# Altium integrated library TI Power Management Supervisor and Reset IC.IntLib: 819 symbols (part 3 of 30)
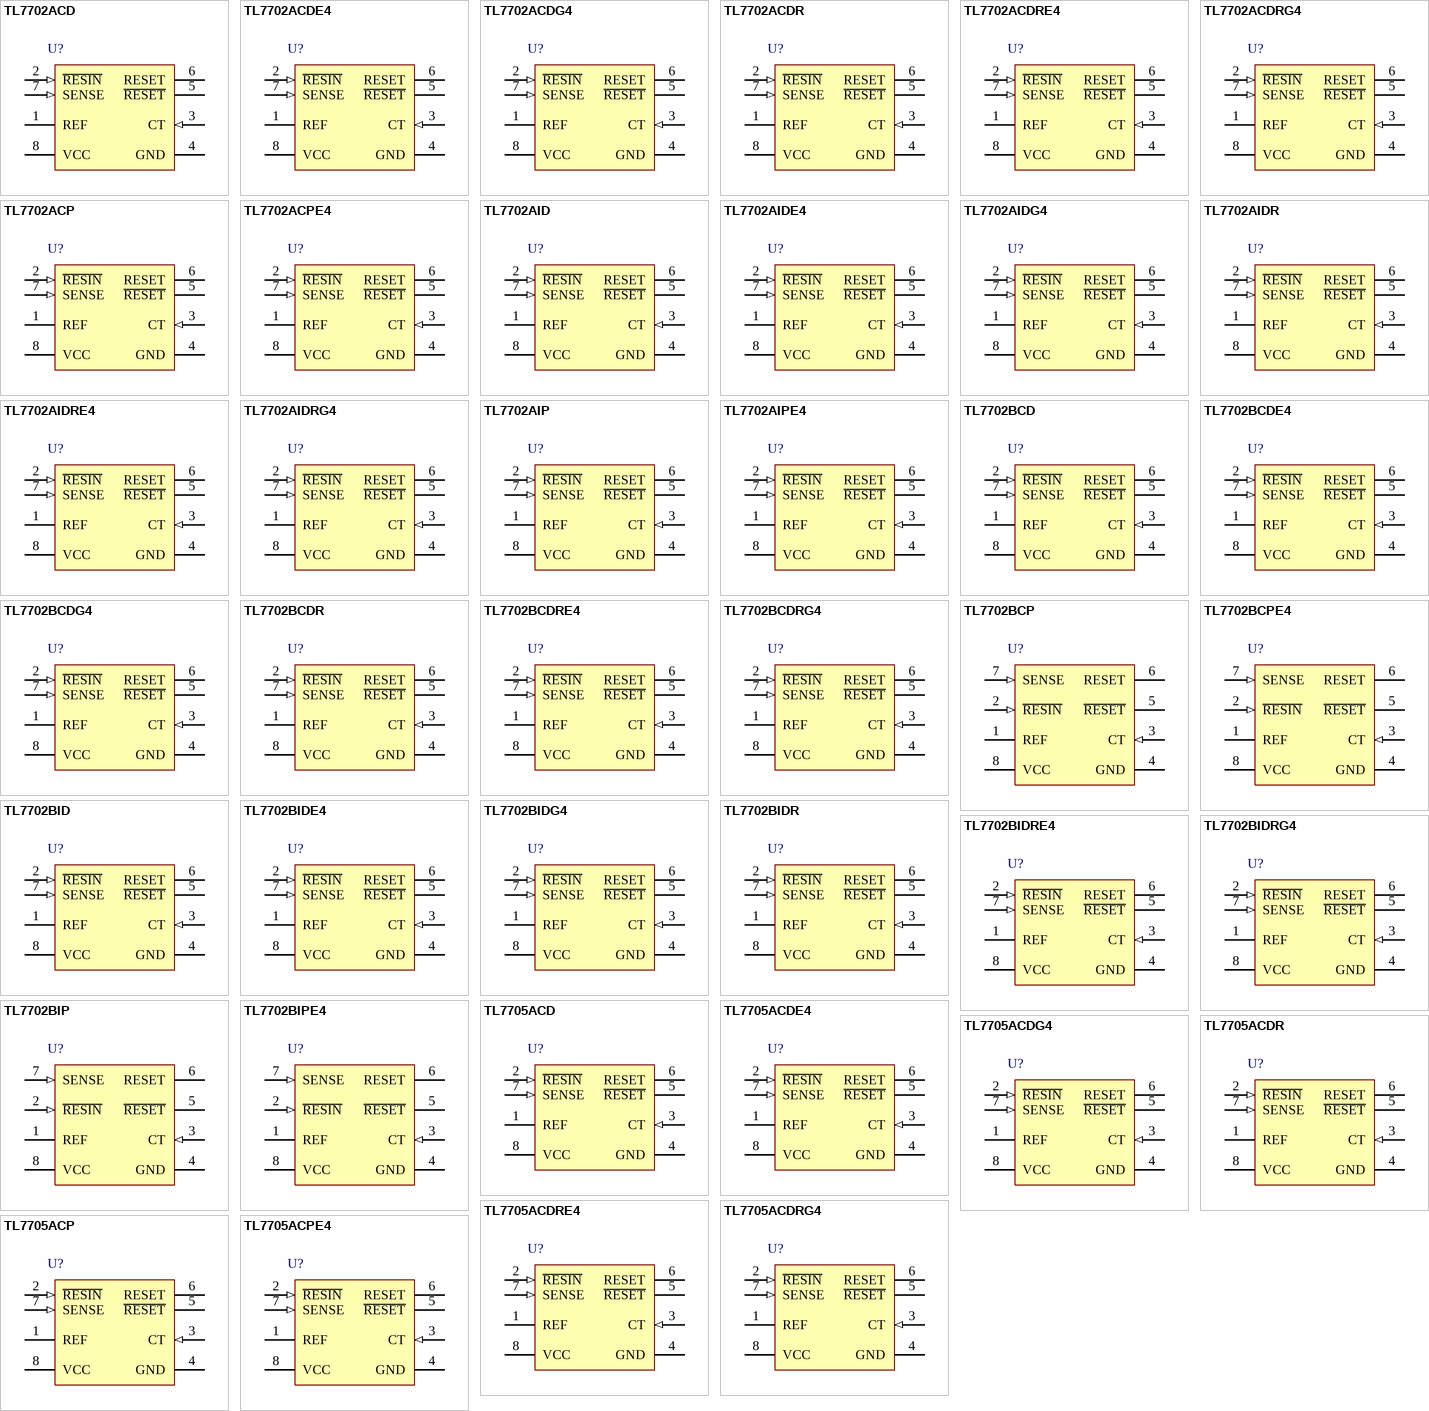
[diagram p23: symbols TL7702ACD to TL7705ACPE4]

## TL7702BIDRG4
designator U?
Single Supply Voltage Supervisor with Programmable UV Threshold & Reset Time Delay, 1 Supply Monitored, -40 to 85 degC, 8-pin SOIC (D), Green (RoHS & no Sb/Br); Manufacturer: Texas Instruments; PartNumber: TL7702BIDRG4; # of supplies monitored: 1; Iq(Typ)(uA): 1800; Output Driver Type / Reset Output: Active-low, Open-drain, Active-high, Open-drain; Rating: Military; Reset Threshold Accuracy(%): 2; SubFamily: Supervisor and Reset IC; Threshold Voltage 1 (typ)(Typ)(V): 2.53; VCC(Max)(V): 18; VCC(Min)(V): 3.6; DatasheetVersion: SLVS037M; PackageVersion: revM, Jun-2011; PackageReference: D8; PackageDescription: 8-Pin Plastic Small Outline Integrated Circuit, 4.9 x 3.9 mm, Pitch 1.27 mm Pitch; Supplier 1: Digi-Key; Supplier Part Number 1: TL7702BIDRG4-ND; Supplier 2: Newark; Supplier Part Number 2: 41M5795; Time Delay(ms): Programmable; Mounting Technology: Surface Mount; Code_JEDEC: MS-012AA; ComponentLink1Description: Datasheet; ComponentLink1URL: http://www.ti.com/general/docs/lit/getliterature.tsp?genericPartNumber=TL7702B&fileType=pdf
footprint D8_N (SOIC, 8-Leads, Body 4.9x3.9mm, Pitch 1.27mm, IPC Medium Density)
footprint D8_L (SOIC, 8-Leads, Body 4.9x3.9mm, Pitch 1.27mm, IPC High Density)
footprint D8_M (SOIC, 8-Leads, Body 4.9x3.9mm, Pitch 1.27mm, IPC Low Density)
pins: 1 REF, 2 ~{RESIN} (in), 3 CT (in), 4 GND (power), 5 ~{RESET} (oc), 6 RESET (oe), 7 SENSE (in), 8 VCC (power)

## TL7702BIP
designator U?
Single Supply Voltage Supervisor with Programmable UV Threshold & Reset Time Delay, 1 Supply Monitored, -40 to 85 degC, 8-pin PDIP (P), Pb-Free (RoHS); Manufacturer: Texas Instruments; PartNumber: TL7702BIP; # of supplies monitored: 1; Iq(Typ)(uA): 1800; Output Driver Type / Reset Output: Active-low, Open-drain, Active-high, Open-drain; Rating: Military; Reset Threshold Accuracy(%): 2; SubFamily: Supervisor and Reset IC; Threshold Voltage 1 (typ)(Typ)(V): 2.53; VCC(Max)(V): 18; VCC(Min)(V): 3.6; DatasheetVersion: SLVS037M; PackageVersion: revE, Apr-2010; PackageReference: P8; PackageDescription: 8-Pin Plastic Dual-In-Line Package, Row Spacing 7.62 mm, Pitch 2.54 mm; Supplier 1: Digi-Key; Supplier Part Number 1: 296-3238-5-ND; Supplier 2: Newark; Supplier Part Number 2: 76C9351; Supplier 3: Mouser; Supplier Part Number 3: 595-TL7702BIP; Time Delay(ms): Programmable; Mounting Technology: Through Hole; Code_JEDEC: MS-001-BA; ComponentLink1Description: Datasheet; ComponentLink1URL: http://www.ti.com/general/docs/lit/getliterature.tsp?genericPartNumber=TL7702B&fileType=pdf
footprint P8 (DIP, 8-Leads, Row Spacing 7.62mm, Pitch 2.54mm, Body 9.6x6.4mm)
pins: 1 REF, 2 ~{RESIN} (in), 3 CT (in), 4 GND (power), 5 ~{RESET} (oc), 6 RESET (oe), 7 SENSE (in), 8 VCC (power)

## TL7702BIPE4
designator U?
Single Supply Voltage Supervisor with Programmable UV Threshold & Reset Time Delay, 1 Supply Monitored, -40 to 85 degC, 8-pin PDIP (P), Pb-Free (RoHS); Manufacturer: Texas Instruments; PartNumber: TL7702BIPE4; # of supplies monitored: 1; Iq(Typ)(uA): 1800; Output Driver Type / Reset Output: Active-low, Open-drain, Active-high, Open-drain; Rating: Military; Reset Threshold Accuracy(%): 2; SubFamily: Supervisor and Reset IC; Threshold Voltage 1 (typ)(Typ)(V): 2.53; VCC(Max)(V): 18; VCC(Min)(V): 3.6; DatasheetVersion: SLVS037M; PackageVersion: revE, Apr-2010; PackageReference: P8; PackageDescription: 8-Pin Plastic Dual-In-Line Package, Row Spacing 7.62 mm, Pitch 2.54 mm; Supplier 1: Digi-Key; Supplier Part Number 1: TL7702BIPE4-ND; Supplier 2: Newark; Supplier Part Number 2: 37K4583; Supplier 3: Mouser; Supplier Part Number 3: 595-TL7702BIPE4; Time Delay(ms): Programmable; Mounting Technology: Through Hole; Code_JEDEC: MS-001-BA; ComponentLink1Description: Datasheet; ComponentLink1URL: http://www.ti.com/general/docs/lit/getliterature.tsp?genericPartNumber=TL7702B&fileType=pdf
footprint P8 (DIP, 8-Leads, Row Spacing 7.62mm, Pitch 2.54mm, Body 9.6x6.4mm)
pins: 1 REF, 2 ~{RESIN} (in), 3 CT (in), 4 GND (power), 5 ~{RESET} (oc), 6 RESET (oe), 7 SENSE (in), 8 VCC (power)

## TL7705ACD
designator U?
Single Supply Voltage Supervisor for 5 V Systems with Programmable Time Delay, 1 Supply Monitored, 0 to 70 degC, 8-pin SOIC (D), Green (RoHS & no Sb/Br); Manufacturer: Texas Instruments; PartNumber: TL7705ACD; # of supplies monitored: 1; Iq(Typ)(uA): 1800; Output Driver Type / Reset Output: Active-low, Open-drain, Active-high, Open-drain; Rating: Catalog; Reset Threshold Accuracy(%): 1.1; SubFamily: Supervisor and Reset IC; Threshold Voltage 1 (typ)(Typ)(V): 4.55; VCC(Max)(V): 18; VCC(Min)(V): 3.5; DatasheetVersion: SLVS028I; PackageVersion: revM, Jun-2011; PackageReference: D8; PackageDescription: 8-Pin Plastic Small Outline Integrated Circuit, 4.9 x 3.9 mm, Pitch 1.27 mm Pitch; Supplier 1: Digi-Key; Supplier Part Number 1: 296-1297-5-ND; Supplier 2: Newark; Supplier Part Number 2: 08F9504; Supplier 3: Mouser; Supplier Part Number 3: 595-TL7705ACD; Time Delay(ms): Programmable; Mounting Technology: Surface Mount; Code_JEDEC: MS-012AA; ComponentLink1Description: Datasheet; ComponentLink1URL: http://www.ti.com/general/docs/lit/getliterature.tsp?genericPartNumber=TL7705A&fileType=pdf
footprint D8_N (SOIC, 8-Leads, Body 4.9x3.9mm, Pitch 1.27mm, IPC Medium Density)
footprint D8_L (SOIC, 8-Leads, Body 4.9x3.9mm, Pitch 1.27mm, IPC High Density)
footprint D8_M (SOIC, 8-Leads, Body 4.9x3.9mm, Pitch 1.27mm, IPC Low Density)
pins: 1 REF, 2 ~{RESIN} (in), 3 CT (in), 4 GND (power), 5 ~{RESET} (oc), 6 RESET (oe), 7 SENSE (in), 8 VCC (power)

## TL7705ACDE4
designator U?
Single Supply Voltage Supervisor for 5 V Systems with Programmable Time Delay, 1 Supply Monitored, 0 to 70 degC, 8-pin SOIC (D), Green (RoHS & no Sb/Br); Manufacturer: Texas Instruments; PartNumber: TL7705ACDE4; # of supplies monitored: 1; Iq(Typ)(uA): 1800; Output Driver Type / Reset Output: Active-low, Open-drain, Active-high, Open-drain; Rating: Catalog; Reset Threshold Accuracy(%): 1.1; SubFamily: Supervisor and Reset IC; Threshold Voltage 1 (typ)(Typ)(V): 4.55; VCC(Max)(V): 18; VCC(Min)(V): 3.5; DatasheetVersion: SLVS028I; PackageVersion: revM, Jun-2011; PackageReference: D8; PackageDescription: 8-Pin Plastic Small Outline Integrated Circuit, 4.9 x 3.9 mm, Pitch 1.27 mm Pitch; Supplier 1: Digi-Key; Supplier Part Number 1: TL7705ACDE4-ND; Supplier 2: Newark; Supplier Part Number 2: 40K9733; Time Delay(ms): Programmable; Mounting Technology: Surface Mount; Code_JEDEC: MS-012AA; ComponentLink1Description: Datasheet; ComponentLink1URL: http://www.ti.com/general/docs/lit/getliterature.tsp?genericPartNumber=TL7705A&fileType=pdf
footprint D8_N (SOIC, 8-Leads, Body 4.9x3.9mm, Pitch 1.27mm, IPC Medium Density)
footprint D8_L (SOIC, 8-Leads, Body 4.9x3.9mm, Pitch 1.27mm, IPC High Density)
footprint D8_M (SOIC, 8-Leads, Body 4.9x3.9mm, Pitch 1.27mm, IPC Low Density)
pins: 1 REF, 2 ~{RESIN} (in), 3 CT (in), 4 GND (power), 5 ~{RESET} (oc), 6 RESET (oe), 7 SENSE (in), 8 VCC (power)

## TL7705ACDG4
designator U?
Single Supply Voltage Supervisor for 5 V Systems with Programmable Time Delay, 1 Supply Monitored, 0 to 70 degC, 8-pin SOIC (D), Green (RoHS & no Sb/Br); Manufacturer: Texas Instruments; PartNumber: TL7705ACDG4; # of supplies monitored: 1; Iq(Typ)(uA): 1800; Output Driver Type / Reset Output: Active-low, Open-drain, Active-high, Open-drain; Rating: Catalog; Reset Threshold Accuracy(%): 1.1; SubFamily: Supervisor and Reset IC; Threshold Voltage 1 (typ)(Typ)(V): 4.55; VCC(Max)(V): 18; VCC(Min)(V): 3.5; DatasheetVersion: SLVS028I; PackageVersion: revM, Jun-2011; PackageReference: D8; PackageDescription: 8-Pin Plastic Small Outline Integrated Circuit, 4.9 x 3.9 mm, Pitch 1.27 mm Pitch; Supplier 1: Digi-Key; Supplier Part Number 1: TL7705ACDG4-ND; Supplier 2: Farnell; Supplier Part Number 2: 1135964; Supplier 3: Newark; Supplier Part Number 3: 93K0640; Supplier 4: Newark; Supplier Part Number 4: 40K9734; Supplier 5: Mouser; Supplier Part Number 5: 595-TL7705ACDG4; Time Delay(ms): Programmable; Mounting Technology: Surface Mount; Code_JEDEC: MS-012AA; ComponentLink1Description: Datasheet; ComponentLink1URL: http://www.ti.com/general/docs/lit/getliterature.tsp?genericPartNumber=TL7705A&fileType=pdf
footprint D8_N (SOIC, 8-Leads, Body 4.9x3.9mm, Pitch 1.27mm, IPC Medium Density)
footprint D8_L (SOIC, 8-Leads, Body 4.9x3.9mm, Pitch 1.27mm, IPC High Density)
footprint D8_M (SOIC, 8-Leads, Body 4.9x3.9mm, Pitch 1.27mm, IPC Low Density)
pins: 1 REF, 2 ~{RESIN} (in), 3 CT (in), 4 GND (power), 5 ~{RESET} (oc), 6 RESET (oe), 7 SENSE (in), 8 VCC (power)

## TL7705ACDR
designator U?
Single Supply Voltage Supervisor for 5 V Systems with Programmable Time Delay, 1 Supply Monitored, 0 to 70 degC, 8-pin SOIC (D), Green (RoHS & no Sb/Br); Manufacturer: Texas Instruments; PartNumber: TL7705ACDR; # of supplies monitored: 1; Iq(Typ)(uA): 1800; Output Driver Type / Reset Output: Active-low, Open-drain, Active-high, Open-drain; Rating: Catalog; Reset Threshold Accuracy(%): 1.1; SubFamily: Supervisor and Reset IC; Threshold Voltage 1 (typ)(Typ)(V): 4.55; VCC(Max)(V): 18; VCC(Min)(V): 3.5; DatasheetVersion: SLVS028I; PackageVersion: revM, Jun-2011; PackageReference: D8; PackageDescription: 8-Pin Plastic Small Outline Integrated Circuit, 4.9 x 3.9 mm, Pitch 1.27 mm Pitch; Supplier 1: Digi-Key; Supplier Part Number 1: 296-1297-2-ND; Supplier 2: Digi-Key; Supplier Part Number 2: 296-1297-1-ND; Supplier 3: Digi-Key; Supplier Part Number 3: 296-1297-6-ND; Supplier 4: Newark; Supplier Part Number 4: 35C2194; Supplier 5: Mouser; Supplier Part Number 5: 595-TL7705ACDR; Time Delay(ms): Programmable; Mounting Technology: Surface Mount; Code_JEDEC: MS-012AA; ComponentLink1Description: Datasheet; ComponentLink1URL: http://www.ti.com/general/docs/lit/getliterature.tsp?genericPartNumber=TL7705A&fileType=pdf
footprint D8_N (SOIC, 8-Leads, Body 4.9x3.9mm, Pitch 1.27mm, IPC Medium Density)
footprint D8_L (SOIC, 8-Leads, Body 4.9x3.9mm, Pitch 1.27mm, IPC High Density)
footprint D8_M (SOIC, 8-Leads, Body 4.9x3.9mm, Pitch 1.27mm, IPC Low Density)
pins: 1 REF, 2 ~{RESIN} (in), 3 CT (in), 4 GND (power), 5 ~{RESET} (oc), 6 RESET (oe), 7 SENSE (in), 8 VCC (power)

## TL7705ACDRE4
designator U?
Single Supply Voltage Supervisor for 5 V Systems with Programmable Time Delay, 1 Supply Monitored, 0 to 70 degC, 8-pin SOIC (D), Green (RoHS & no Sb/Br); Manufacturer: Texas Instruments; PartNumber: TL7705ACDRE4; # of supplies monitored: 1; Iq(Typ)(uA): 1800; Output Driver Type / Reset Output: Active-low, Open-drain, Active-high, Open-drain; Rating: Catalog; Reset Threshold Accuracy(%): 1.1; SubFamily: Supervisor and Reset IC; Threshold Voltage 1 (typ)(Typ)(V): 4.55; VCC(Max)(V): 18; VCC(Min)(V): 3.5; DatasheetVersion: SLVS028I; PackageVersion: revM, Jun-2011; PackageReference: D8; PackageDescription: 8-Pin Plastic Small Outline Integrated Circuit, 4.9 x 3.9 mm, Pitch 1.27 mm Pitch; Supplier 1: Digi-Key; Supplier Part Number 1: TL7705ACDRE4-ND; Supplier 2: Newark; Supplier Part Number 2: 40K9735; Supplier 3: Mouser; Supplier Part Number 3: 595-TL7705ACDRE4; Time Delay(ms): Programmable; Mounting Technology: Surface Mount; Code_JEDEC: MS-012AA; ComponentLink1Description: Datasheet; ComponentLink1URL: http://www.ti.com/general/docs/lit/getliterature.tsp?genericPartNumber=TL7705A&fileType=pdf
footprint D8_N (SOIC, 8-Leads, Body 4.9x3.9mm, Pitch 1.27mm, IPC Medium Density)
footprint D8_L (SOIC, 8-Leads, Body 4.9x3.9mm, Pitch 1.27mm, IPC High Density)
footprint D8_M (SOIC, 8-Leads, Body 4.9x3.9mm, Pitch 1.27mm, IPC Low Density)
pins: 1 REF, 2 ~{RESIN} (in), 3 CT (in), 4 GND (power), 5 ~{RESET} (oc), 6 RESET (oe), 7 SENSE (in), 8 VCC (power)

## TL7705ACDRG4
designator U?
Single Supply Voltage Supervisor for 5 V Systems with Programmable Time Delay, 1 Supply Monitored, 0 to 70 degC, 8-pin SOIC (D), Green (RoHS & no Sb/Br); Manufacturer: Texas Instruments; PartNumber: TL7705ACDRG4; # of supplies monitored: 1; Iq(Typ)(uA): 1800; Output Driver Type / Reset Output: Active-low, Open-drain, Active-high, Open-drain; Rating: Catalog; Reset Threshold Accuracy(%): 1.1; SubFamily: Supervisor and Reset IC; Threshold Voltage 1 (typ)(Typ)(V): 4.55; VCC(Max)(V): 18; VCC(Min)(V): 3.5; DatasheetVersion: SLVS028I; PackageVersion: revM, Jun-2011; PackageReference: D8; PackageDescription: 8-Pin Plastic Small Outline Integrated Circuit, 4.9 x 3.9 mm, Pitch 1.27 mm Pitch; Supplier 1: Digi-Key; Supplier Part Number 1: TL7705ACDRG4-ND; Supplier 2: Farnell; Supplier Part Number 2: 1236543; Supplier 3: Newark; Supplier Part Number 3: 13M3204; Supplier 4: Newark; Supplier Part Number 4: 40K9736; Supplier 5: Mouser; Supplier Part Number 5: 595-TL7705ACDRG4; Time Delay(ms): Programmable; Mounting Technology: Surface Mount; Code_JEDEC: MS-012AA; ComponentLink1Description: Datasheet; ComponentLink1URL: http://www.ti.com/general/docs/lit/getliterature.tsp?genericPartNumber=TL7705A&fileType=pdf
footprint D8_N (SOIC, 8-Leads, Body 4.9x3.9mm, Pitch 1.27mm, IPC Medium Density)
footprint D8_L (SOIC, 8-Leads, Body 4.9x3.9mm, Pitch 1.27mm, IPC High Density)
footprint D8_M (SOIC, 8-Leads, Body 4.9x3.9mm, Pitch 1.27mm, IPC Low Density)
pins: 1 REF, 2 ~{RESIN} (in), 3 CT (in), 4 GND (power), 5 ~{RESET} (oc), 6 RESET (oe), 7 SENSE (in), 8 VCC (power)

## TL7705ACP
designator U?
Single Supply Voltage Supervisor for 5 V Systems with Programmable Time Delay, 1 Supply Monitored, 0 to 70 degC, 8-pin PDIP (P), Pb-Free (RoHS); Manufacturer: Texas Instruments; PartNumber: TL7705ACP; # of supplies monitored: 1; Iq(Typ)(uA): 1800; Output Driver Type / Reset Output: Active-low, Open-drain, Active-high, Open-drain; Rating: Catalog; Reset Threshold Accuracy(%): 1.1; SubFamily: Supervisor and Reset IC; Threshold Voltage 1 (typ)(Typ)(V): 4.55; VCC(Max)(V): 18; VCC(Min)(V): 3.5; DatasheetVersion: SLVS028I; PackageVersion: revE, Apr-2010; PackageReference: P8; PackageDescription: 8-Pin Plastic Dual-In-Line Package, Row Spacing 7.62 mm, Pitch 2.54 mm; Supplier 1: Digi-Key; Supplier Part Number 1: 296-1801-5-ND; Supplier 2: Farnell; Supplier Part Number 2: 1103043; Supplier 3: Newark; Supplier Part Number 3: 60K6997; Supplier 4: Mouser; Supplier Part Number 4: 595-TL7705ACP; Time Delay(ms): Programmable; Mounting Technology: Through Hole; Code_JEDEC: MS-001-BA; ComponentLink1Description: Datasheet; ComponentLink1URL: http://www.ti.com/general/docs/lit/getliterature.tsp?genericPartNumber=TL7705A&fileType=pdf
footprint P8 (DIP, 8-Leads, Row Spacing 7.62mm, Pitch 2.54mm, Body 9.6x6.4mm)
pins: 1 REF, 2 ~{RESIN} (in), 3 CT (in), 4 GND (power), 5 ~{RESET} (oc), 6 RESET (oe), 7 SENSE (in), 8 VCC (power)

## TL7705ACPE4
designator U?
Single Supply Voltage Supervisor for 5 V Systems with Programmable Time Delay, 1 Supply Monitored, 0 to 70 degC, 8-pin PDIP (P), Pb-Free (RoHS); Manufacturer: Texas Instruments; PartNumber: TL7705ACPE4; # of supplies monitored: 1; Iq(Typ)(uA): 1800; Output Driver Type / Reset Output: Active-low, Open-drain, Active-high, Open-drain; Rating: Catalog; Reset Threshold Accuracy(%): 1.1; SubFamily: Supervisor and Reset IC; Threshold Voltage 1 (typ)(Typ)(V): 4.55; VCC(Max)(V): 18; VCC(Min)(V): 3.5; DatasheetVersion: SLVS028I; PackageVersion: revE, Apr-2010; PackageReference: P8; PackageDescription: 8-Pin Plastic Dual-In-Line Package, Row Spacing 7.62 mm, Pitch 2.54 mm; Supplier 1: Digi-Key; Supplier Part Number 1: TL7705ACPE4-ND; Supplier 2: Newark; Supplier Part Number 2: 63K6535; Supplier 3: Mouser; Supplier Part Number 3: 595-TL7705ACPE4; Time Delay(ms): Programmable; Mounting Technology: Through Hole; Code_JEDEC: MS-001-BA; ComponentLink1Description: Datasheet; ComponentLink1URL: http://www.ti.com/general/docs/lit/getliterature.tsp?genericPartNumber=TL7705A&fileType=pdf
footprint P8 (DIP, 8-Leads, Row Spacing 7.62mm, Pitch 2.54mm, Body 9.6x6.4mm)
pins: 1 REF, 2 ~{RESIN} (in), 3 CT (in), 4 GND (power), 5 ~{RESET} (oc), 6 RESET (oe), 7 SENSE (in), 8 VCC (power)

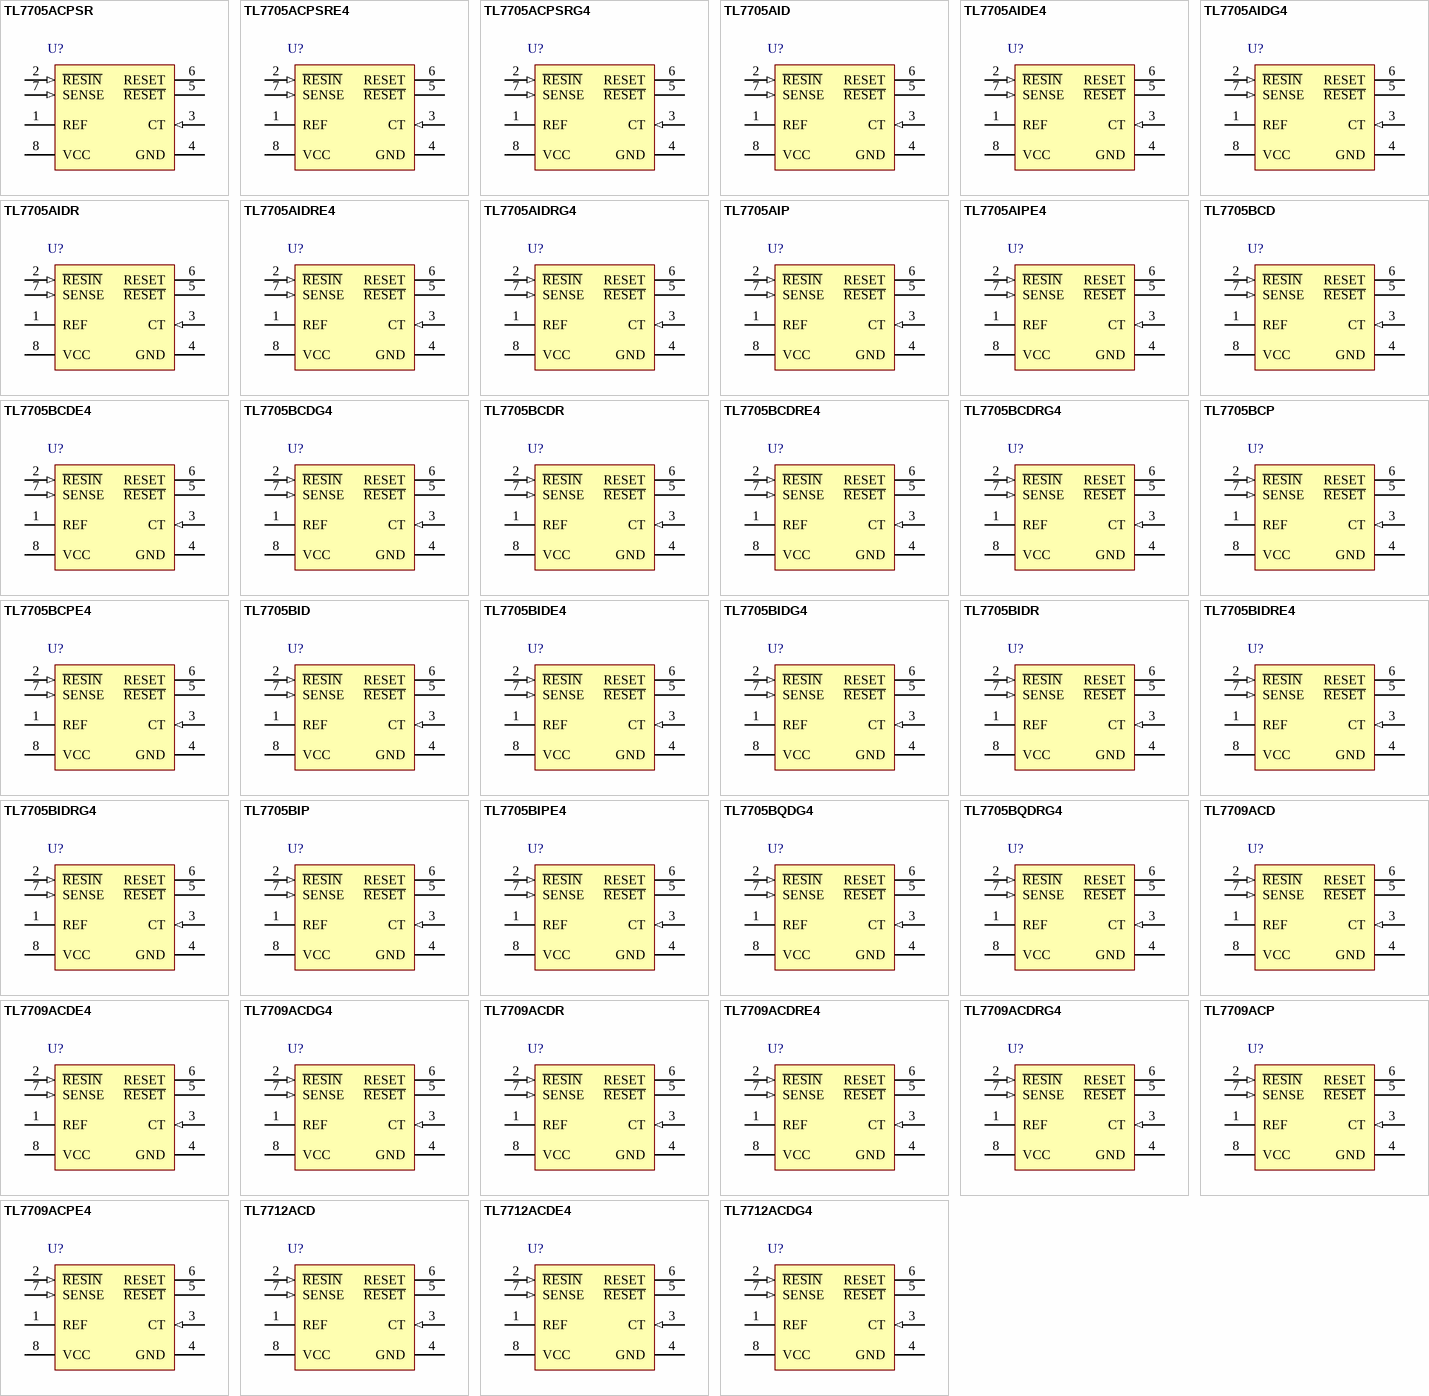
[diagram p2: symbols TL7705ACPSR to TL7712ACDG4]

## TL7705ACPSR
designator U?
Single Supply Voltage Supervisor for 5 V Systems with Programmable Time Delay, 1 Supply Monitored, 0 to 70 degC, 8-pin SO (PS), Green (RoHS & no Sb/Br); Manufacturer: Texas Instruments; PartNumber: TL7705ACPSR; # of supplies monitored: 1; Iq(Typ)(uA): 1800; Output Driver Type / Reset Output: Active-low, Open-drain, Active-high, Open-drain; Rating: Catalog; Reset Threshold Accuracy(%): 1.1; SubFamily: Supervisor and Reset IC; Threshold Voltage 1 (typ)(Typ)(V): 4.55; VCC(Max)(V): 18; VCC(Min)(V): 3.5; DatasheetVersion: SLVS028I; PackageVersion: revM, Jun-2011; PackageReference: D8; PackageDescription: 8-Pin Plastic Small Outline Integrated Circuit, 4.9 x 3.9 mm, Pitch 1.27 mm Pitch; Supplier 1: Digi-Key; Supplier Part Number 1: 296-3239-2-ND; Supplier 2: Digi-Key; Supplier Part Number 2: 296-3239-1-ND; Supplier 3: Digi-Key; Supplier Part Number 3: 296-3239-6-ND; Supplier 4: Newark; Supplier Part Number 4: 76C9352; Supplier 5: Mouser; Supplier Part Number 5: 595-TL7705ACPSR; Time Delay(ms): Programmable; Mounting Technology: Surface Mount; Code_JEDEC: MS-012AA; ComponentLink1Description: Datasheet; ComponentLink1URL: http://www.ti.com/general/docs/lit/getliterature.tsp?genericPartNumber=TL7705A&fileType=pdf
footprint D8_N (SOIC, 8-Leads, Body 4.9x3.9mm, Pitch 1.27mm, IPC Medium Density)
footprint D8_L (SOIC, 8-Leads, Body 4.9x3.9mm, Pitch 1.27mm, IPC High Density)
footprint D8_M (SOIC, 8-Leads, Body 4.9x3.9mm, Pitch 1.27mm, IPC Low Density)
pins: 1 REF, 2 ~{RESIN} (in), 3 CT (in), 4 GND (power), 5 ~{RESET} (oc), 6 RESET (oe), 7 SENSE (in), 8 VCC (power)

## TL7705ACPSRE4
designator U?
Single Supply Voltage Supervisor for 5 V Systems with Programmable Time Delay, 1 Supply Monitored, 0 to 70 degC, 8-pin SO (PS), Green (RoHS & no Sb/Br); Manufacturer: Texas Instruments; PartNumber: TL7705ACPSRE4; # of supplies monitored: 1; Iq(Typ)(uA): 1800; Output Driver Type / Reset Output: Active-low, Open-drain, Active-high, Open-drain; Rating: Catalog; Reset Threshold Accuracy(%): 1.1; SubFamily: Supervisor and Reset IC; Threshold Voltage 1 (typ)(Typ)(V): 4.55; VCC(Max)(V): 18; VCC(Min)(V): 3.5; DatasheetVersion: SLVS028I; PackageVersion: revM, Jun-2011; PackageReference: D8; PackageDescription: 8-Pin Plastic Small Outline Integrated Circuit, 4.9 x 3.9 mm, Pitch 1.27 mm Pitch; Supplier 1: Digi-Key; Supplier Part Number 1: TL7705ACPSRE4-ND; Supplier 2: Newark; Supplier Part Number 2: 37K4584; Supplier 3: Mouser; Supplier Part Number 3: 595-TL7705ACPSRE4; Time Delay(ms): Programmable; Mounting Technology: Surface Mount; Code_JEDEC: MS-012AA; ComponentLink1Description: Datasheet; ComponentLink1URL: http://www.ti.com/general/docs/lit/getliterature.tsp?genericPartNumber=TL7705A&fileType=pdf
footprint D8_N (SOIC, 8-Leads, Body 4.9x3.9mm, Pitch 1.27mm, IPC Medium Density)
footprint D8_L (SOIC, 8-Leads, Body 4.9x3.9mm, Pitch 1.27mm, IPC High Density)
footprint D8_M (SOIC, 8-Leads, Body 4.9x3.9mm, Pitch 1.27mm, IPC Low Density)
pins: 1 REF, 2 ~{RESIN} (in), 3 CT (in), 4 GND (power), 5 ~{RESET} (oc), 6 RESET (oe), 7 SENSE (in), 8 VCC (power)

## TL7705ACPSRG4
designator U?
Single Supply Voltage Supervisor for 5 V Systems with Programmable Time Delay, 1 Supply Monitored, 0 to 70 degC, 8-pin SO (PS), Green (RoHS & no Sb/Br); Manufacturer: Texas Instruments; PartNumber: TL7705ACPSRG4; # of supplies monitored: 1; Iq(Typ)(uA): 1800; Output Driver Type / Reset Output: Active-low, Open-drain, Active-high, Open-drain; Rating: Catalog; Reset Threshold Accuracy(%): 1.1; SubFamily: Supervisor and Reset IC; Threshold Voltage 1 (typ)(Typ)(V): 4.55; VCC(Max)(V): 18; VCC(Min)(V): 3.5; DatasheetVersion: SLVS028I; PackageVersion: revM, Jun-2011; PackageReference: D8; PackageDescription: 8-Pin Plastic Small Outline Integrated Circuit, 4.9 x 3.9 mm, Pitch 1.27 mm Pitch; Supplier 1: Digi-Key; Supplier Part Number 1: TL7705ACPSRG4-ND; Supplier 2: Newark; Supplier Part Number 2: 46M9297; Supplier 3: Mouser; Supplier Part Number 3: 595-TL7705ACPSRG4; Time Delay(ms): Programmable; Mounting Technology: Surface Mount; Code_JEDEC: MS-012AA; ComponentLink1Description: Datasheet; ComponentLink1URL: http://www.ti.com/general/docs/lit/getliterature.tsp?genericPartNumber=TL7705A&fileType=pdf
footprint D8_N (SOIC, 8-Leads, Body 4.9x3.9mm, Pitch 1.27mm, IPC Medium Density)
footprint D8_L (SOIC, 8-Leads, Body 4.9x3.9mm, Pitch 1.27mm, IPC High Density)
footprint D8_M (SOIC, 8-Leads, Body 4.9x3.9mm, Pitch 1.27mm, IPC Low Density)
pins: 1 REF, 2 ~{RESIN} (in), 3 CT (in), 4 GND (power), 5 ~{RESET} (oc), 6 RESET (oe), 7 SENSE (in), 8 VCC (power)

## TL7705AID
designator U?
Single Supply Voltage Supervisor for 5 V Systems with Programmable Time Delay, 1 Supply Monitored, -40 to 85 degC, 8-pin SOIC (D), Green (RoHS & no Sb/Br); Manufacturer: Texas Instruments; PartNumber: TL7705AID; # of supplies monitored: 1; Iq(Typ)(uA): 1800; Output Driver Type / Reset Output: Active-low, Open-drain, Active-high, Open-drain; Rating: Catalog; Reset Threshold Accuracy(%): 1.1; SubFamily: Supervisor and Reset IC; Threshold Voltage 1 (typ)(Typ)(V): 4.55; VCC(Max)(V): 18; VCC(Min)(V): 3.5; DatasheetVersion: SLVS028I; PackageVersion: revM, Jun-2011; PackageReference: D8; PackageDescription: 8-Pin Plastic Small Outline Integrated Circuit, 4.9 x 3.9 mm, Pitch 1.27 mm Pitch; Supplier 1: Digi-Key; Supplier Part Number 1: 296-3240-5-ND; Supplier 2: Farnell; Supplier Part Number 2: 9593691; Supplier 3: Newark; Supplier Part Number 3: 76C9353; Supplier 4: Mouser; Supplier Part Number 4: 595-TL7705AID; Time Delay(ms): Programmable; Mounting Technology: Surface Mount; Code_JEDEC: MS-012AA; ComponentLink1Description: Datasheet; ComponentLink1URL: http://www.ti.com/general/docs/lit/getliterature.tsp?genericPartNumber=TL7705A&fileType=pdf
footprint D8_N (SOIC, 8-Leads, Body 4.9x3.9mm, Pitch 1.27mm, IPC Medium Density)
footprint D8_L (SOIC, 8-Leads, Body 4.9x3.9mm, Pitch 1.27mm, IPC High Density)
footprint D8_M (SOIC, 8-Leads, Body 4.9x3.9mm, Pitch 1.27mm, IPC Low Density)
pins: 1 REF, 2 ~{RESIN} (in), 3 CT (in), 4 GND (power), 5 ~{RESET} (oc), 6 RESET (oe), 7 SENSE (in), 8 VCC (power)

## TL7705AIDE4
designator U?
Single Supply Voltage Supervisor for 5 V Systems with Programmable Time Delay, 1 Supply Monitored, -40 to 85 degC, 8-pin SOIC (D), Green (RoHS & no Sb/Br); Manufacturer: Texas Instruments; PartNumber: TL7705AIDE4; # of supplies monitored: 1; Iq(Typ)(uA): 1800; Output Driver Type / Reset Output: Active-low, Open-drain, Active-high, Open-drain; Rating: Catalog; Reset Threshold Accuracy(%): 1.1; SubFamily: Supervisor and Reset IC; Threshold Voltage 1 (typ)(Typ)(V): 4.55; VCC(Max)(V): 18; VCC(Min)(V): 3.5; DatasheetVersion: SLVS028I; PackageVersion: revM, Jun-2011; PackageReference: D8; PackageDescription: 8-Pin Plastic Small Outline Integrated Circuit, 4.9 x 3.9 mm, Pitch 1.27 mm Pitch; Supplier 1: Digi-Key; Supplier Part Number 1: TL7705AIDE4-ND; Supplier 2: Newark; Supplier Part Number 2: 69K0661; Supplier 3: Mouser; Supplier Part Number 3: 595-TL7705AIDE4; Time Delay(ms): Programmable; Mounting Technology: Surface Mount; Code_JEDEC: MS-012AA; ComponentLink1Description: Datasheet; ComponentLink1URL: http://www.ti.com/general/docs/lit/getliterature.tsp?genericPartNumber=TL7705A&fileType=pdf
footprint D8_N (SOIC, 8-Leads, Body 4.9x3.9mm, Pitch 1.27mm, IPC Medium Density)
footprint D8_L (SOIC, 8-Leads, Body 4.9x3.9mm, Pitch 1.27mm, IPC High Density)
footprint D8_M (SOIC, 8-Leads, Body 4.9x3.9mm, Pitch 1.27mm, IPC Low Density)
pins: 1 REF, 2 ~{RESIN} (in), 3 CT (in), 4 GND (power), 5 ~{RESET} (oc), 6 RESET (oe), 7 SENSE (in), 8 VCC (power)

## TL7705AIDG4
designator U?
Single Supply Voltage Supervisor for 5 V Systems with Programmable Time Delay, 1 Supply Monitored, -40 to 85 degC, 8-pin SOIC (D), Green (RoHS & no Sb/Br); Manufacturer: Texas Instruments; PartNumber: TL7705AIDG4; # of supplies monitored: 1; Iq(Typ)(uA): 1800; Output Driver Type / Reset Output: Active-low, Open-drain, Active-high, Open-drain; Rating: Catalog; Reset Threshold Accuracy(%): 1.1; SubFamily: Supervisor and Reset IC; Threshold Voltage 1 (typ)(Typ)(V): 4.55; VCC(Max)(V): 18; VCC(Min)(V): 3.5; DatasheetVersion: SLVS028I; PackageVersion: revM, Jun-2011; PackageReference: D8; PackageDescription: 8-Pin Plastic Small Outline Integrated Circuit, 4.9 x 3.9 mm, Pitch 1.27 mm Pitch; Supplier 1: Digi-Key; Supplier Part Number 1: TL7705AIDG4-ND; Supplier 2: Newark; Supplier Part Number 2: 40K9737; Supplier 3: Mouser; Supplier Part Number 3: 595-TL7705AIDG4; Time Delay(ms): Programmable; Mounting Technology: Surface Mount; Code_JEDEC: MS-012AA; ComponentLink1Description: Datasheet; ComponentLink1URL: http://www.ti.com/general/docs/lit/getliterature.tsp?genericPartNumber=TL7705A&fileType=pdf
footprint D8_N (SOIC, 8-Leads, Body 4.9x3.9mm, Pitch 1.27mm, IPC Medium Density)
footprint D8_L (SOIC, 8-Leads, Body 4.9x3.9mm, Pitch 1.27mm, IPC High Density)
footprint D8_M (SOIC, 8-Leads, Body 4.9x3.9mm, Pitch 1.27mm, IPC Low Density)
pins: 1 REF, 2 ~{RESIN} (in), 3 CT (in), 4 GND (power), 5 ~{RESET} (oc), 6 RESET (oe), 7 SENSE (in), 8 VCC (power)

## TL7705AIDR
designator U?
Single Supply Voltage Supervisor for 5 V Systems with Programmable Time Delay, 1 Supply Monitored, -40 to 85 degC, 8-pin SOIC (D), Green (RoHS & no Sb/Br); Manufacturer: Texas Instruments; PartNumber: TL7705AIDR; # of supplies monitored: 1; Iq(Typ)(uA): 1800; Output Driver Type / Reset Output: Active-low, Open-drain, Active-high, Open-drain; Rating: Catalog; Reset Threshold Accuracy(%): 1.1; SubFamily: Supervisor and Reset IC; Threshold Voltage 1 (typ)(Typ)(V): 4.55; VCC(Max)(V): 18; VCC(Min)(V): 3.5; DatasheetVersion: SLVS028I; PackageVersion: revM, Jun-2011; PackageReference: D8; PackageDescription: 8-Pin Plastic Small Outline Integrated Circuit, 4.9 x 3.9 mm, Pitch 1.27 mm Pitch; Supplier 1: Digi-Key; Supplier Part Number 1: 296-15019-2-ND; Supplier 2: Digi-Key; Supplier Part Number 2: 296-15019-1-ND; Supplier 3: Digi-Key; Supplier Part Number 3: 296-15019-6-ND; Supplier 4: Newark; Supplier Part Number 4: 76C9354; Supplier 5: Mouser; Supplier Part Number 5: 595-TL7705AIDR; Time Delay(ms): Programmable; Mounting Technology: Surface Mount; Code_JEDEC: MS-012AA; ComponentLink1Description: Datasheet; ComponentLink1URL: http://www.ti.com/general/docs/lit/getliterature.tsp?genericPartNumber=TL7705A&fileType=pdf
footprint D8_N (SOIC, 8-Leads, Body 4.9x3.9mm, Pitch 1.27mm, IPC Medium Density)
footprint D8_L (SOIC, 8-Leads, Body 4.9x3.9mm, Pitch 1.27mm, IPC High Density)
footprint D8_M (SOIC, 8-Leads, Body 4.9x3.9mm, Pitch 1.27mm, IPC Low Density)
pins: 1 REF, 2 ~{RESIN} (in), 3 CT (in), 4 GND (power), 5 ~{RESET} (oc), 6 RESET (oe), 7 SENSE (in), 8 VCC (power)

## TL7705AIDRE4
designator U?
Single Supply Voltage Supervisor for 5 V Systems with Programmable Time Delay, 1 Supply Monitored, -40 to 85 degC, 8-pin SOIC (D), Green (RoHS & no Sb/Br); Manufacturer: Texas Instruments; PartNumber: TL7705AIDRE4; # of supplies monitored: 1; Iq(Typ)(uA): 1800; Output Driver Type / Reset Output: Active-low, Open-drain, Active-high, Open-drain; Rating: Catalog; Reset Threshold Accuracy(%): 1.1; SubFamily: Supervisor and Reset IC; Threshold Voltage 1 (typ)(Typ)(V): 4.55; VCC(Max)(V): 18; VCC(Min)(V): 3.5; DatasheetVersion: SLVS028I; PackageVersion: revM, Jun-2011; PackageReference: D8; PackageDescription: 8-Pin Plastic Small Outline Integrated Circuit, 4.9 x 3.9 mm, Pitch 1.27 mm Pitch; Supplier 1: Digi-Key; Supplier Part Number 1: TL7705AIDRE4-ND; Supplier 2: Newark; Supplier Part Number 2: 69K0662; Supplier 3: Mouser; Supplier Part Number 3: 595-TL7705AIDRE4; Time Delay(ms): Programmable; Mounting Technology: Surface Mount; Code_JEDEC: MS-012AA; ComponentLink1Description: Datasheet; ComponentLink1URL: http://www.ti.com/general/docs/lit/getliterature.tsp?genericPartNumber=TL7705A&fileType=pdf
footprint D8_N (SOIC, 8-Leads, Body 4.9x3.9mm, Pitch 1.27mm, IPC Medium Density)
footprint D8_L (SOIC, 8-Leads, Body 4.9x3.9mm, Pitch 1.27mm, IPC High Density)
footprint D8_M (SOIC, 8-Leads, Body 4.9x3.9mm, Pitch 1.27mm, IPC Low Density)
pins: 1 REF, 2 ~{RESIN} (in), 3 CT (in), 4 GND (power), 5 ~{RESET} (oc), 6 RESET (oe), 7 SENSE (in), 8 VCC (power)

## TL7705AIDRG4
designator U?
Single Supply Voltage Supervisor for 5 V Systems with Programmable Time Delay, 1 Supply Monitored, -40 to 85 degC, 8-pin SOIC (D), Green (RoHS & no Sb/Br); Manufacturer: Texas Instruments; PartNumber: TL7705AIDRG4; # of supplies monitored: 1; Iq(Typ)(uA): 1800; Output Driver Type / Reset Output: Active-low, Open-drain, Active-high, Open-drain; Rating: Catalog; Reset Threshold Accuracy(%): 1.1; SubFamily: Supervisor and Reset IC; Threshold Voltage 1 (typ)(Typ)(V): 4.55; VCC(Max)(V): 18; VCC(Min)(V): 3.5; DatasheetVersion: SLVS028I; PackageVersion: revM, Jun-2011; PackageReference: D8; PackageDescription: 8-Pin Plastic Small Outline Integrated Circuit, 4.9 x 3.9 mm, Pitch 1.27 mm Pitch; Supplier 1: Digi-Key; Supplier Part Number 1: TL7705AIDRG4-ND; Supplier 2: Newark; Supplier Part Number 2: 40K9738; Supplier 3: Mouser; Supplier Part Number 3: 595-TL7705AIDRG4; Time Delay(ms): Programmable; Mounting Technology: Surface Mount; Code_JEDEC: MS-012AA; ComponentLink1Description: Datasheet; ComponentLink1URL: http://www.ti.com/general/docs/lit/getliterature.tsp?genericPartNumber=TL7705A&fileType=pdf
footprint D8_N (SOIC, 8-Leads, Body 4.9x3.9mm, Pitch 1.27mm, IPC Medium Density)
footprint D8_L (SOIC, 8-Leads, Body 4.9x3.9mm, Pitch 1.27mm, IPC High Density)
footprint D8_M (SOIC, 8-Leads, Body 4.9x3.9mm, Pitch 1.27mm, IPC Low Density)
pins: 1 REF, 2 ~{RESIN} (in), 3 CT (in), 4 GND (power), 5 ~{RESET} (oc), 6 RESET (oe), 7 SENSE (in), 8 VCC (power)

## TL7705AIP
designator U?
Single Supply Voltage Supervisor for 5 V Systems with Programmable Time Delay, 1 Supply Monitored, -40 to 85 degC, 8-pin PDIP (P), Pb-Free (RoHS); Manufacturer: Texas Instruments; PartNumber: TL7705AIP; # of supplies monitored: 1; Iq(Typ)(uA): 1800; Output Driver Type / Reset Output: Active-low, Open-drain, Active-high, Open-drain; Rating: Catalog; Reset Threshold Accuracy(%): 1.1; SubFamily: Supervisor and Reset IC; Threshold Voltage 1 (typ)(Typ)(V): 4.55; VCC(Max)(V): 18; VCC(Min)(V): 3.5; DatasheetVersion: SLVS028I; PackageVersion: revE, Apr-2010; PackageReference: P8; PackageDescription: 8-Pin Plastic Dual-In-Line Package, Row Spacing 7.62 mm, Pitch 2.54 mm; Supplier 1: Digi-Key; Supplier Part Number 1: 296-3241-5-ND; Supplier 2: Farnell; Supplier Part Number 2: 6386969; Supplier 3: Newark; Supplier Part Number 3: 08F9506; Supplier 4: Mouser; Supplier Part Number 4: 595-TL7705AIP; Time Delay(ms): Programmable; Mounting Technology: Through Hole; Code_JEDEC: MS-001-BA; ComponentLink1Description: Datasheet; ComponentLink1URL: http://www.ti.com/general/docs/lit/getliterature.tsp?genericPartNumber=TL7705A&fileType=pdf
footprint P8 (DIP, 8-Leads, Row Spacing 7.62mm, Pitch 2.54mm, Body 9.6x6.4mm)
pins: 1 REF, 2 ~{RESIN} (in), 3 CT (in), 4 GND (power), 5 ~{RESET} (oc), 6 RESET (oe), 7 SENSE (in), 8 VCC (power)

## TL7705AIPE4
designator U?
Single Supply Voltage Supervisor for 5 V Systems with Programmable Time Delay, 1 Supply Monitored, -40 to 85 degC, 8-pin PDIP (P), Pb-Free (RoHS); Manufacturer: Texas Instruments; PartNumber: TL7705AIPE4; # of supplies monitored: 1; Iq(Typ)(uA): 1800; Output Driver Type / Reset Output: Active-low, Open-drain, Active-high, Open-drain; Rating: Catalog; Reset Threshold Accuracy(%): 1.1; SubFamily: Supervisor and Reset IC; Threshold Voltage 1 (typ)(Typ)(V): 4.55; VCC(Max)(V): 18; VCC(Min)(V): 3.5; DatasheetVersion: SLVS028I; PackageVersion: revE, Apr-2010; PackageReference: P8; PackageDescription: 8-Pin Plastic Dual-In-Line Package, Row Spacing 7.62 mm, Pitch 2.54 mm; Supplier 1: Digi-Key; Supplier Part Number 1: TL7705AIPE4-ND; Supplier 2: Newark; Supplier Part Number 2: 37K4585; Supplier 3: Mouser; Supplier Part Number 3: 595-TL7705AIPE4; Time Delay(ms): Programmable; Mounting Technology: Through Hole; Code_JEDEC: MS-001-BA; ComponentLink1Description: Datasheet; ComponentLink1URL: http://www.ti.com/general/docs/lit/getliterature.tsp?genericPartNumber=TL7705A&fileType=pdf
footprint P8 (DIP, 8-Leads, Row Spacing 7.62mm, Pitch 2.54mm, Body 9.6x6.4mm)
pins: 1 REF, 2 ~{RESIN} (in), 3 CT (in), 4 GND (power), 5 ~{RESET} (oc), 6 RESET (oe), 7 SENSE (in), 8 VCC (power)

## TL7705BCD
designator U?
Single Supply Voltage Supervisor for 5 V Systems with Programmable Time Delay, 1 Supply Monitored, 0 to 70 degC, 8-pin SOIC (D), Green (RoHS & no Sb/Br); Manufacturer: Texas Instruments; PartNumber: TL7705BCD; # of supplies monitored: 1; Iq(Typ)(uA): 1800; Output Driver Type / Reset Output: Active-low, Open-drain, Active-high, Open-drain; Rating: Military; Reset Threshold Accuracy(%): 2.2; SubFamily: Supervisor and Reset IC; Threshold Voltage 1 (typ)(Typ)(V): 4.55; VCC(Max)(V): 18; VCC(Min)(V): 3.6; DatasheetVersion: SLVS037M; PackageVersion: revM, Jun-2011; PackageReference: D8; PackageDescription: 8-Pin Plastic Small Outline Integrated Circuit, 4.9 x 3.9 mm, Pitch 1.27 mm Pitch; Supplier 1: Digi-Key; Supplier Part Number 1: 296-1298-5-ND; Supplier 2: Farnell; Supplier Part Number 2: 9593713; Supplier 3: Newark; Supplier Part Number 3: 35K1274; Supplier 4: Mouser; Supplier Part Number 4: 595-TL7705BCD; Time Delay(ms): Programmable; Mounting Technology: Surface Mount; Code_JEDEC: MS-012AA; ComponentLink1Description: Datasheet; ComponentLink1URL: http://www.ti.com/general/docs/lit/getliterature.tsp?genericPartNumber=TL7705B&fileType=pdf
footprint D8_N (SOIC, 8-Leads, Body 4.9x3.9mm, Pitch 1.27mm, IPC Medium Density)
footprint D8_L (SOIC, 8-Leads, Body 4.9x3.9mm, Pitch 1.27mm, IPC High Density)
footprint D8_M (SOIC, 8-Leads, Body 4.9x3.9mm, Pitch 1.27mm, IPC Low Density)
pins: 1 REF, 2 ~{RESIN} (in), 3 CT (in), 4 GND (power), 5 ~{RESET} (oc), 6 RESET (oe), 7 SENSE (in), 8 VCC (power)

## TL7705BCDE4
designator U?
Single Supply Voltage Supervisor for 5 V Systems with Programmable Time Delay, 1 Supply Monitored, 0 to 70 degC, 8-pin SOIC (D), Green (RoHS & no Sb/Br); Manufacturer: Texas Instruments; PartNumber: TL7705BCDE4; # of supplies monitored: 1; Iq(Typ)(uA): 1800; Output Driver Type / Reset Output: Active-low, Open-drain, Active-high, Open-drain; Rating: Military; Reset Threshold Accuracy(%): 2.2; SubFamily: Supervisor and Reset IC; Threshold Voltage 1 (typ)(Typ)(V): 4.55; VCC(Max)(V): 18; VCC(Min)(V): 3.6; DatasheetVersion: SLVS037M; PackageVersion: revM, Jun-2011; PackageReference: D8; PackageDescription: 8-Pin Plastic Small Outline Integrated Circuit, 4.9 x 3.9 mm, Pitch 1.27 mm Pitch; Supplier 1: Digi-Key; Supplier Part Number 1: TL7705BCDE4-ND; Supplier 2: Newark; Supplier Part Number 2: 37K4586; Supplier 3: Mouser; Supplier Part Number 3: 595-TL7705BCDE4; Time Delay(ms): Programmable; Mounting Technology: Surface Mount; Code_JEDEC: MS-012AA; ComponentLink1Description: Datasheet; ComponentLink1URL: http://www.ti.com/general/docs/lit/getliterature.tsp?genericPartNumber=TL7705B&fileType=pdf
footprint D8_N (SOIC, 8-Leads, Body 4.9x3.9mm, Pitch 1.27mm, IPC Medium Density)
footprint D8_L (SOIC, 8-Leads, Body 4.9x3.9mm, Pitch 1.27mm, IPC High Density)
footprint D8_M (SOIC, 8-Leads, Body 4.9x3.9mm, Pitch 1.27mm, IPC Low Density)
pins: 1 REF, 2 ~{RESIN} (in), 3 CT (in), 4 GND (power), 5 ~{RESET} (oc), 6 RESET (oe), 7 SENSE (in), 8 VCC (power)

## TL7705BCDG4
designator U?
Single Supply Voltage Supervisor for 5 V Systems with Programmable Time Delay, 1 Supply Monitored, 0 to 70 degC, 8-pin SOIC (D), Green (RoHS & no Sb/Br); Manufacturer: Texas Instruments; PartNumber: TL7705BCDG4; # of supplies monitored: 1; Iq(Typ)(uA): 1800; Output Driver Type / Reset Output: Active-low, Open-drain, Active-high, Open-drain; Rating: Military; Reset Threshold Accuracy(%): 2.2; SubFamily: Supervisor and Reset IC; Threshold Voltage 1 (typ)(Typ)(V): 4.55; VCC(Max)(V): 18; VCC(Min)(V): 3.6; DatasheetVersion: SLVS037M; PackageVersion: revM, Jun-2011; PackageReference: D8; PackageDescription: 8-Pin Plastic Small Outline Integrated Circuit, 4.9 x 3.9 mm, Pitch 1.27 mm Pitch; Supplier 1: Digi-Key; Supplier Part Number 1: TL7705BCDG4-ND; Supplier 2: Newark; Supplier Part Number 2: 41M5796; Supplier 3: Mouser; Supplier Part Number 3: 595-TL7705BCDG4; Time Delay(ms): Programmable; Mounting Technology: Surface Mount; Code_JEDEC: MS-012AA; ComponentLink1Description: Datasheet; ComponentLink1URL: http://www.ti.com/general/docs/lit/getliterature.tsp?genericPartNumber=TL7705B&fileType=pdf
footprint D8_N (SOIC, 8-Leads, Body 4.9x3.9mm, Pitch 1.27mm, IPC Medium Density)
footprint D8_L (SOIC, 8-Leads, Body 4.9x3.9mm, Pitch 1.27mm, IPC High Density)
footprint D8_M (SOIC, 8-Leads, Body 4.9x3.9mm, Pitch 1.27mm, IPC Low Density)
pins: 1 REF, 2 ~{RESIN} (in), 3 CT (in), 4 GND (power), 5 ~{RESET} (oc), 6 RESET (oe), 7 SENSE (in), 8 VCC (power)

## TL7705BCDR
designator U?
Single Supply Voltage Supervisor for 5 V Systems with Programmable Time Delay, 1 Supply Monitored, 0 to 70 degC, 8-pin SOIC (D), Green (RoHS & no Sb/Br); Manufacturer: Texas Instruments; PartNumber: TL7705BCDR; # of supplies monitored: 1; Iq(Typ)(uA): 1800; Output Driver Type / Reset Output: Active-low, Open-drain, Active-high, Open-drain; Rating: Military; Reset Threshold Accuracy(%): 2.2; SubFamily: Supervisor and Reset IC; Threshold Voltage 1 (typ)(Typ)(V): 4.55; VCC(Max)(V): 18; VCC(Min)(V): 3.6; DatasheetVersion: SLVS037M; PackageVersion: revM, Jun-2011; PackageReference: D8; PackageDescription: 8-Pin Plastic Small Outline Integrated Circuit, 4.9 x 3.9 mm, Pitch 1.27 mm Pitch; Supplier 1: Digi-Key; Supplier Part Number 1: 296-1298-2-ND; Supplier 2: Digi-Key; Supplier Part Number 2: 296-1298-1-ND; Supplier 3: Digi-Key; Supplier Part Number 3: 296-1298-6-ND; Supplier 4: Newark; Supplier Part Number 4: 35C2195; Supplier 5: Mouser; Supplier Part Number 5: 595-TL7705BCDR; Time Delay(ms): Programmable; Mounting Technology: Surface Mount; Code_JEDEC: MS-012AA; ComponentLink1Description: Datasheet; ComponentLink1URL: http://www.ti.com/general/docs/lit/getliterature.tsp?genericPartNumber=TL7705B&fileType=pdf
footprint D8_N (SOIC, 8-Leads, Body 4.9x3.9mm, Pitch 1.27mm, IPC Medium Density)
footprint D8_L (SOIC, 8-Leads, Body 4.9x3.9mm, Pitch 1.27mm, IPC High Density)
footprint D8_M (SOIC, 8-Leads, Body 4.9x3.9mm, Pitch 1.27mm, IPC Low Density)
pins: 1 REF, 2 ~{RESIN} (in), 3 CT (in), 4 GND (power), 5 ~{RESET} (oc), 6 RESET (oe), 7 SENSE (in), 8 VCC (power)

## TL7705BCDRE4
designator U?
Single Supply Voltage Supervisor for 5 V Systems with Programmable Time Delay, 1 Supply Monitored, 0 to 70 degC, 8-pin SOIC (D), Green (RoHS & no Sb/Br); Manufacturer: Texas Instruments; PartNumber: TL7705BCDRE4; # of supplies monitored: 1; Iq(Typ)(uA): 1800; Output Driver Type / Reset Output: Active-low, Open-drain, Active-high, Open-drain; Rating: Military; Reset Threshold Accuracy(%): 2.2; SubFamily: Supervisor and Reset IC; Threshold Voltage 1 (typ)(Typ)(V): 4.55; VCC(Max)(V): 18; VCC(Min)(V): 3.6; DatasheetVersion: SLVS037M; PackageVersion: revM, Jun-2011; PackageReference: D8; PackageDescription: 8-Pin Plastic Small Outline Integrated Circuit, 4.9 x 3.9 mm, Pitch 1.27 mm Pitch; Supplier 1: Digi-Key; Supplier Part Number 1: TL7705BCDRE4-ND; Supplier 2: Newark; Supplier Part Number 2: 37K4587; Supplier 3: Mouser; Supplier Part Number 3: 595-TL7705BCDRE4; Time Delay(ms): Programmable; Mounting Technology: Surface Mount; Code_JEDEC: MS-012AA; ComponentLink1Description: Datasheet; ComponentLink1URL: http://www.ti.com/general/docs/lit/getliterature.tsp?genericPartNumber=TL7705B&fileType=pdf
footprint D8_N (SOIC, 8-Leads, Body 4.9x3.9mm, Pitch 1.27mm, IPC Medium Density)
footprint D8_L (SOIC, 8-Leads, Body 4.9x3.9mm, Pitch 1.27mm, IPC High Density)
footprint D8_M (SOIC, 8-Leads, Body 4.9x3.9mm, Pitch 1.27mm, IPC Low Density)
pins: 1 REF, 2 ~{RESIN} (in), 3 CT (in), 4 GND (power), 5 ~{RESET} (oc), 6 RESET (oe), 7 SENSE (in), 8 VCC (power)

## TL7705BCDRG4
designator U?
Single Supply Voltage Supervisor for 5 V Systems with Programmable Time Delay, 1 Supply Monitored, 0 to 70 degC, 8-pin SOIC (D), Green (RoHS & no Sb/Br); Manufacturer: Texas Instruments; PartNumber: TL7705BCDRG4; # of supplies monitored: 1; Iq(Typ)(uA): 1800; Output Driver Type / Reset Output: Active-low, Open-drain, Active-high, Open-drain; Rating: Military; Reset Threshold Accuracy(%): 2.2; SubFamily: Supervisor and Reset IC; Threshold Voltage 1 (typ)(Typ)(V): 4.55; VCC(Max)(V): 18; VCC(Min)(V): 3.6; DatasheetVersion: SLVS037M; PackageVersion: revM, Jun-2011; PackageReference: D8; PackageDescription: 8-Pin Plastic Small Outline Integrated Circuit, 4.9 x 3.9 mm, Pitch 1.27 mm Pitch; Supplier 1: Digi-Key; Supplier Part Number 1: TL7705BCDRG4-ND; Supplier 2: Newark; Supplier Part Number 2: 41M5797; Supplier 3: Mouser; Supplier Part Number 3: 595-TL7705BCDRG4; Time Delay(ms): Programmable; Mounting Technology: Surface Mount; Code_JEDEC: MS-012AA; ComponentLink1Description: Datasheet; ComponentLink1URL: http://www.ti.com/general/docs/lit/getliterature.tsp?genericPartNumber=TL7705B&fileType=pdf
footprint D8_N (SOIC, 8-Leads, Body 4.9x3.9mm, Pitch 1.27mm, IPC Medium Density)
footprint D8_L (SOIC, 8-Leads, Body 4.9x3.9mm, Pitch 1.27mm, IPC High Density)
footprint D8_M (SOIC, 8-Leads, Body 4.9x3.9mm, Pitch 1.27mm, IPC Low Density)
pins: 1 REF, 2 ~{RESIN} (in), 3 CT (in), 4 GND (power), 5 ~{RESET} (oc), 6 RESET (oe), 7 SENSE (in), 8 VCC (power)

## TL7705BCP
designator U?
Single Supply Voltage Supervisor for 5 V Systems with Programmable Time Delay, 1 Supply Monitored, 0 to 70 degC, 8-pin PDIP (P), Pb-Free (RoHS); Manufacturer: Texas Instruments; PartNumber: TL7705BCP; # of supplies monitored: 1; Iq(Typ)(uA): 1800; Output Driver Type / Reset Output: Active-low, Open-drain, Active-high, Open-drain; Rating: Military; Reset Threshold Accuracy(%): 2.2; SubFamily: Supervisor and Reset IC; Threshold Voltage 1 (typ)(Typ)(V): 4.55; VCC(Max)(V): 18; VCC(Min)(V): 3.6; DatasheetVersion: SLVS037M; PackageVersion: revE, Apr-2010; PackageReference: P8; PackageDescription: 8-Pin Plastic Dual-In-Line Package, Row Spacing 7.62 mm, Pitch 2.54 mm; Supplier 1: Digi-Key; Supplier Part Number 1: 296-3242-5-ND; Supplier 2: Newark; Supplier Part Number 2: 08F9508; Supplier 3: Mouser; Supplier Part Number 3: 595-TL7705BCP; Time Delay(ms): Programmable; Mounting Technology: Through Hole; Code_JEDEC: MS-001-BA; ComponentLink1Description: Datasheet; ComponentLink1URL: http://www.ti.com/general/docs/lit/getliterature.tsp?genericPartNumber=TL7705B&fileType=pdf
footprint P8 (DIP, 8-Leads, Row Spacing 7.62mm, Pitch 2.54mm, Body 9.6x6.4mm)
pins: 1 REF, 2 ~{RESIN} (in), 3 CT (in), 4 GND (power), 5 ~{RESET} (oc), 6 RESET (oe), 7 SENSE (in), 8 VCC (power)

## TL7705BCPE4
designator U?
Single Supply Voltage Supervisor for 5 V Systems with Programmable Time Delay, 1 Supply Monitored, 0 to 70 degC, 8-pin PDIP (P), Pb-Free (RoHS); Manufacturer: Texas Instruments; PartNumber: TL7705BCPE4; # of supplies monitored: 1; Iq(Typ)(uA): 1800; Output Driver Type / Reset Output: Active-low, Open-drain, Active-high, Open-drain; Rating: Military; Reset Threshold Accuracy(%): 2.2; SubFamily: Supervisor and Reset IC; Threshold Voltage 1 (typ)(Typ)(V): 4.55; VCC(Max)(V): 18; VCC(Min)(V): 3.6; DatasheetVersion: SLVS037M; PackageVersion: revE, Apr-2010; PackageReference: P8; PackageDescription: 8-Pin Plastic Dual-In-Line Package, Row Spacing 7.62 mm, Pitch 2.54 mm; Supplier 1: Digi-Key; Supplier Part Number 1: TL7705BCPE4-ND; Supplier 2: Newark; Supplier Part Number 2: 37K4588; Supplier 3: Mouser; Supplier Part Number 3: 595-TL7705BCPE4; Time Delay(ms): Programmable; Mounting Technology: Through Hole; Code_JEDEC: MS-001-BA; ComponentLink1Description: Datasheet; ComponentLink1URL: http://www.ti.com/general/docs/lit/getliterature.tsp?genericPartNumber=TL7705B&fileType=pdf
footprint P8 (DIP, 8-Leads, Row Spacing 7.62mm, Pitch 2.54mm, Body 9.6x6.4mm)
pins: 1 REF, 2 ~{RESIN} (in), 3 CT (in), 4 GND (power), 5 ~{RESET} (oc), 6 RESET (oe), 7 SENSE (in), 8 VCC (power)

## TL7705BID
designator U?
Single Supply Voltage Supervisor for 5 V Systems with Programmable Time Delay, 1 Supply Monitored, -40 to 85 degC, 8-pin SOIC (D), Green (RoHS & no Sb/Br); Manufacturer: Texas Instruments; PartNumber: TL7705BID; # of supplies monitored: 1; Iq(Typ)(uA): 1800; Output Driver Type / Reset Output: Active-low, Open-drain, Active-high, Open-drain; Rating: Military; Reset Threshold Accuracy(%): 2.2; SubFamily: Supervisor and Reset IC; Threshold Voltage 1 (typ)(Typ)(V): 4.55; VCC(Max)(V): 18; VCC(Min)(V): 3.6; DatasheetVersion: SLVS037M; PackageVersion: revM, Jun-2011; PackageReference: D8; PackageDescription: 8-Pin Plastic Small Outline Integrated Circuit, 4.9 x 3.9 mm, Pitch 1.27 mm Pitch; Supplier 1: Digi-Key; Supplier Part Number 1: 296-3243-5-ND; Supplier 2: Newark; Supplier Part Number 2: 76C9355; Supplier 3: Mouser; Supplier Part Number 3: 595-TL7705BID; Time Delay(ms): Programmable; Mounting Technology: Surface Mount; Code_JEDEC: MS-012AA; ComponentLink1Description: Datasheet; ComponentLink1URL: http://www.ti.com/general/docs/lit/getliterature.tsp?genericPartNumber=TL7705B&fileType=pdf
footprint D8_N (SOIC, 8-Leads, Body 4.9x3.9mm, Pitch 1.27mm, IPC Medium Density)
footprint D8_L (SOIC, 8-Leads, Body 4.9x3.9mm, Pitch 1.27mm, IPC High Density)
footprint D8_M (SOIC, 8-Leads, Body 4.9x3.9mm, Pitch 1.27mm, IPC Low Density)
pins: 1 REF, 2 ~{RESIN} (in), 3 CT (in), 4 GND (power), 5 ~{RESET} (oc), 6 RESET (oe), 7 SENSE (in), 8 VCC (power)

## TL7705BIDE4
designator U?
Single Supply Voltage Supervisor for 5 V Systems with Programmable Time Delay, 1 Supply Monitored, -40 to 85 degC, 8-pin SOIC (D), Green (RoHS & no Sb/Br); Manufacturer: Texas Instruments; PartNumber: TL7705BIDE4; # of supplies monitored: 1; Iq(Typ)(uA): 1800; Output Driver Type / Reset Output: Active-low, Open-drain, Active-high, Open-drain; Rating: Military; Reset Threshold Accuracy(%): 2.2; SubFamily: Supervisor and Reset IC; Threshold Voltage 1 (typ)(Typ)(V): 4.55; VCC(Max)(V): 18; VCC(Min)(V): 3.6; DatasheetVersion: SLVS037M; PackageVersion: revM, Jun-2011; PackageReference: D8; PackageDescription: 8-Pin Plastic Small Outline Integrated Circuit, 4.9 x 3.9 mm, Pitch 1.27 mm Pitch; Supplier 1: Digi-Key; Supplier Part Number 1: TL7705BIDE4-ND; Supplier 2: Newark; Supplier Part Number 2: 37K4589; Supplier 3: Mouser; Supplier Part Number 3: 595-TL7705BIDE4; Time Delay(ms): Programmable; Mounting Technology: Surface Mount; Code_JEDEC: MS-012AA; ComponentLink1Description: Datasheet; ComponentLink1URL: http://www.ti.com/general/docs/lit/getliterature.tsp?genericPartNumber=TL7705B&fileType=pdf
footprint D8_N (SOIC, 8-Leads, Body 4.9x3.9mm, Pitch 1.27mm, IPC Medium Density)
footprint D8_L (SOIC, 8-Leads, Body 4.9x3.9mm, Pitch 1.27mm, IPC High Density)
footprint D8_M (SOIC, 8-Leads, Body 4.9x3.9mm, Pitch 1.27mm, IPC Low Density)
pins: 1 REF, 2 ~{RESIN} (in), 3 CT (in), 4 GND (power), 5 ~{RESET} (oc), 6 RESET (oe), 7 SENSE (in), 8 VCC (power)

## TL7705BIDG4
designator U?
Single Supply Voltage Supervisor for 5 V Systems with Programmable Time Delay, 1 Supply Monitored, -40 to 85 degC, 8-pin SOIC (D), Green (RoHS & no Sb/Br); Manufacturer: Texas Instruments; PartNumber: TL7705BIDG4; # of supplies monitored: 1; Iq(Typ)(uA): 1800; Output Driver Type / Reset Output: Active-low, Open-drain, Active-high, Open-drain; Rating: Military; Reset Threshold Accuracy(%): 2.2; SubFamily: Supervisor and Reset IC; Threshold Voltage 1 (typ)(Typ)(V): 4.55; VCC(Max)(V): 18; VCC(Min)(V): 3.6; DatasheetVersion: SLVS037M; PackageVersion: revM, Jun-2011; PackageReference: D8; PackageDescription: 8-Pin Plastic Small Outline Integrated Circuit, 4.9 x 3.9 mm, Pitch 1.27 mm Pitch; Supplier 1: Digi-Key; Supplier Part Number 1: TL7705BIDG4-ND; Supplier 2: Newark; Supplier Part Number 2: 41M5798; Supplier 3: Mouser; Supplier Part Number 3: 595-TL7705BIDG4; Time Delay(ms): Programmable; Mounting Technology: Surface Mount; Code_JEDEC: MS-012AA; ComponentLink1Description: Datasheet; ComponentLink1URL: http://www.ti.com/general/docs/lit/getliterature.tsp?genericPartNumber=TL7705B&fileType=pdf
footprint D8_N (SOIC, 8-Leads, Body 4.9x3.9mm, Pitch 1.27mm, IPC Medium Density)
footprint D8_L (SOIC, 8-Leads, Body 4.9x3.9mm, Pitch 1.27mm, IPC High Density)
footprint D8_M (SOIC, 8-Leads, Body 4.9x3.9mm, Pitch 1.27mm, IPC Low Density)
pins: 1 REF, 2 ~{RESIN} (in), 3 CT (in), 4 GND (power), 5 ~{RESET} (oc), 6 RESET (oe), 7 SENSE (in), 8 VCC (power)